# EAGLE library part TBP01R1-508-07BE (library TBP01R1-508-07BE)
Check prices <https://pricing.snapeda.com/parts/TBP01R1-508-07BE/CUI%20Devices/view-part?ref=eda>
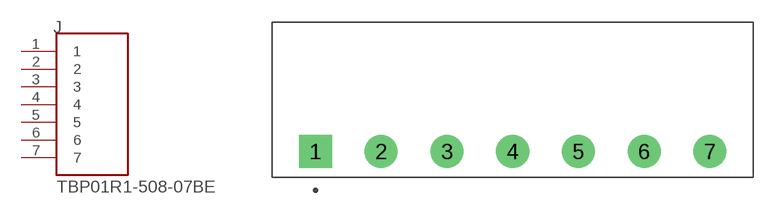
[diagram p0: symbol with the pads of CUI_TBP01R1-508-07BE; footprint CUI_TBP01R1-508-07BE]

Designator prefix J

## TBP01R1-508-07BE (Availability: In Stock; CUI_purchase_URL: https://www.cuidevices.com/product/interconnect/connectors/terminal-blocks/tbp01r1-508-series?utm_source=snapeda.com&utm_medium=referral&utm_campaign=snapedaBOM; Description: 2~24 Poles, Pluggable, Receptacle, Horizontal, 5.08 Pitch, Terminal Block Connector; MF: CUI Devices; MP: TBP01R1-508-07BE; Package: None; Price: None; Purchase-URL: https://pricing.snapeda.com/search/part/TBP01R1-508-07BE/?ref=eda)  [CUI_TBP01R1-508-07BE]
1  1  pas
2  2  pas
3  3  pas
4  4  pas
5  5  pas
6  6  pas
7  7  pas

## Footprint CUI_TBP01R1-508-07BE (pad centres in mm)
drill 1.7 square: 1 0,0
drill 1.7: 2 5.08,0; 3 10.16,0; 4 15.24,0; 5 20.32,0; 6 25.4,0; 7 30.48,0